# EAGLE library part ACME-ARIA-G25 (library Oles komponentbibliotek)
Acme Systems Aria G25 module Aria G25 is a System-on-Module (SoM) designed for running Linux. It is based on an ARM9 @400 MHz on an Atmel AT91SAM9G25 SoC, and includes 128 MB or 256 MB of DDR2 SDRAM, Ethernet, USB, UART, I2C, SPI, A/D and GPIO.
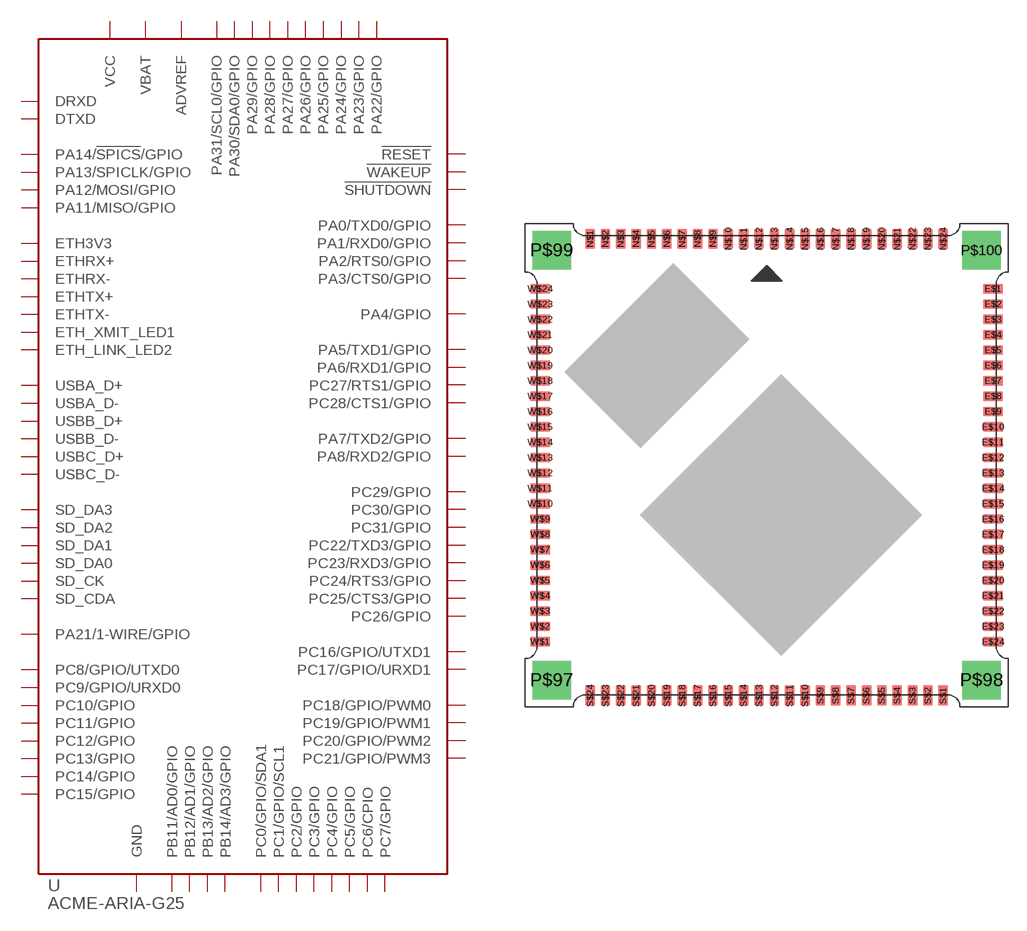
[diagram p33: symbol with the pads of ARIA_G25; footprint ARIA_G25]

Designator prefix U

## ACME-ARIA-G25  [ARIA_G25]
E$1  GND  pwr
E$2  PC22/TXD3/GPIO
E$3  PC23/RXD3/GPIO
E$4  PC24/RTS3/GPIO
E$5  PC25/CTS3/GPIO
E$6  PC26/GPIO
E$7  PC27/RTS1/GPIO
E$8  PC28/CTS1/GPIO
E$9  PC29/GPIO
E$10  PC30/GPIO
E$11  PC31/GPIO
E$12  USBC_D+
E$13  USBC_D-
E$14  GND  pwr
E$15  USBB_D-
E$16  USBB_D+
E$17  GND  pwr
E$18  USBA_D-
E$19  USBA_D+
E$20  VBAT  pwr
E$21  !RESET  in
E$22  !SHUTDOWN  out
E$23  !WAKEUP  in
E$24  VCC  pwr
N$1  VCC  pwr
N$2  PC0/GPIO/SDA1
N$3  PC1/GPIO/SCL1
N$4  PC2/GPIO
N$5  PC3/GPIO
N$6  PC4/GPIO
N$7  PC5/GPIO
N$8  PC6/CPIO
N$9  PC7/GPIO
N$10  PC8/GPIO/UTXD0
N$11  PC9/GPIO/URXD0
N$12  PC10/GPIO
N$13  PC11/GPIO
N$14  PC12/GPIO
N$15  PC13/GPIO
N$16  PC14/GPIO
N$17  PC15/GPIO
N$18  PC16/GPIO/UTXD1
N$19  PC17/GPIO/URXD1
N$20  PC18/GPIO/PWM0
N$21  PC19/GPIO/PWM1
N$22  PC20/GPIO/PWM2
N$23  PC21/GPIO/PWM3
N$24  GND  pwr
S$1  VCC  pwr
S$2  PA21/1-WIRE/GPIO
S$3  SD_DA3
S$4  SD_DA2
S$5  SD_DA1
S$6  SD_CK  out
S$7  SD_CDA
S$8  SD_DA0
S$9  PA14/!SPICS!/GPIO
S$10  PA13/SPICLK/GPIO
S$11  PA12/MOSI/GPIO
S$12  PA11/MISO/GPIO
S$13  DTXD  out
S$14  DRXD  in
S$15  PA8/RXD2/GPIO
S$16  PA7/TXD2/GPIO
S$17  PA6/RXD1/GPIO
S$18  PA5/TXD1/GPIO
S$19  PA4/GPIO
S$20  PA3/CTS0/GPIO
S$21  PA2/RTS0/GPIO
S$22  PA1/RXD0/GPIO
S$23  PA0/TXD0/GPIO
S$24  GND  pwr
W$1  GND  pwr
W$2  ETHRX+  in
W$3  ETHRX-  in
W$4  ETHTX+  out
W$5  ETHTX-  out
W$6  ETH3V3  pwr
W$7  ETH_XMIT_LED1  out
W$8  ETH_LINK_LED2  out
W$9  PA22/GPIO
W$10  PA23/GPIO
W$11  PA24/GPIO
W$12  PA25/GPIO
W$13  PA26/GPIO
W$14  PA27/GPIO
W$15  PA28/GPIO
W$16  PA29/GPIO
W$17  PA30/SDA0/GPIO
W$18  PA31/SCL0/GPIO
W$19  ADVREF  pwr
W$20  PB11/AD0/GPIO
W$21  PB12/AD1/GPIO
W$22  PB13/AD2/GPIO
W$23  PB14/AD3/GPIO
W$24  VCC  pwr

## Footprint ARIA_G25 (pad centres in mm)
Acme Systems Aria G25 module
smd 1.676 x 0.813: E$1 18.733,14.605; E$2 18.733,13.335; E$3 18.733,12.065; E$4 18.733,10.795; E$5 18.733,9.525; E$6 18.733,8.255; E$7 18.733,6.985; E$8 18.733,5.715; E$9 18.733,4.445; E$10 18.733,3.175; E$11 18.733,1.905; E$12 18.733,0.635; E$13 18.733,-0.635; E$14 18.733,-1.905; E$15 18.733,-3.175; E$16 18.733,-4.445; E$17 18.733,-5.715; E$18 18.733,-6.985; E$19 18.733,-8.255; E$20 18.733,-9.525; E$21 18.733,-10.795; E$22 18.733,-12.065; E$23 18.733,-13.335; E$24 18.733,-14.605; W$1 -18.733,-14.605; W$2 -18.733,-13.335; W$3 -18.733,-12.065; W$4 -18.733,-10.795; W$5 -18.733,-9.525; W$6 -18.733,-8.255; W$7 -18.733,-6.985; W$8 -18.733,-5.715; W$9 -18.733,-4.445; W$10 -18.733,-3.175; W$11 -18.733,-1.905; W$12 -18.733,-0.635; W$13 -18.733,0.635; W$14 -18.733,1.905; W$15 -18.733,3.175; W$16 -18.733,4.445; W$17 -18.733,5.715; W$18 -18.733,6.985; W$19 -18.733,8.255; W$20 -18.733,9.525; W$21 -18.733,10.795; W$22 -18.733,12.065; W$23 -18.733,13.335; W$24 -18.733,14.605
smd 0.813 x 1.676: N$1 -14.605,18.733; N$2 -13.335,18.733; N$3 -12.065,18.733; N$4 -10.795,18.733; N$5 -9.525,18.733; N$6 -8.255,18.733; N$7 -6.985,18.733; N$8 -5.715,18.733; N$9 -4.445,18.733; N$10 -3.175,18.733; N$11 -1.905,18.733; N$12 -0.635,18.733; N$13 0.635,18.733; N$14 1.905,18.733; N$15 3.175,18.733; N$16 4.445,18.733; N$17 5.715,18.733; N$18 6.985,18.733; N$19 8.255,18.733; N$20 9.525,18.733; N$21 10.795,18.733; N$22 12.065,18.733; N$23 13.335,18.733; N$24 14.605,18.733; S$1 14.605,-19.05; S$2 13.335,-19.05; S$3 12.065,-19.05; S$4 10.795,-19.05; S$5 9.525,-19.05; S$6 8.255,-19.05; S$7 6.985,-19.05; S$8 5.715,-19.05; S$9 4.445,-19.05; S$10 3.175,-19.05; S$11 1.905,-19.05; S$12 0.635,-19.05; S$13 -0.635,-19.05; S$14 -1.905,-19.05; S$15 -3.175,-19.05; S$16 -4.445,-19.05; S$17 -5.715,-19.05; S$18 -6.985,-19.05; S$19 -8.255,-19.05; S$20 -9.525,-19.05; S$21 -10.795,-19.05; S$22 -12.065,-19.05; S$23 -13.335,-19.05; S$24 -14.605,-19.05
drill 2.2 square: P$97 -17.78,-17.78; P$98 17.78,-17.78; P$99 -17.78,17.78; P$100 17.78,17.78